# EAGLE library part VS1053 (library we-chip)
VLSI VS1053 Audio Codec - Ogg Vorbis/MP3/AAC/WMA/FLAC/MIDI
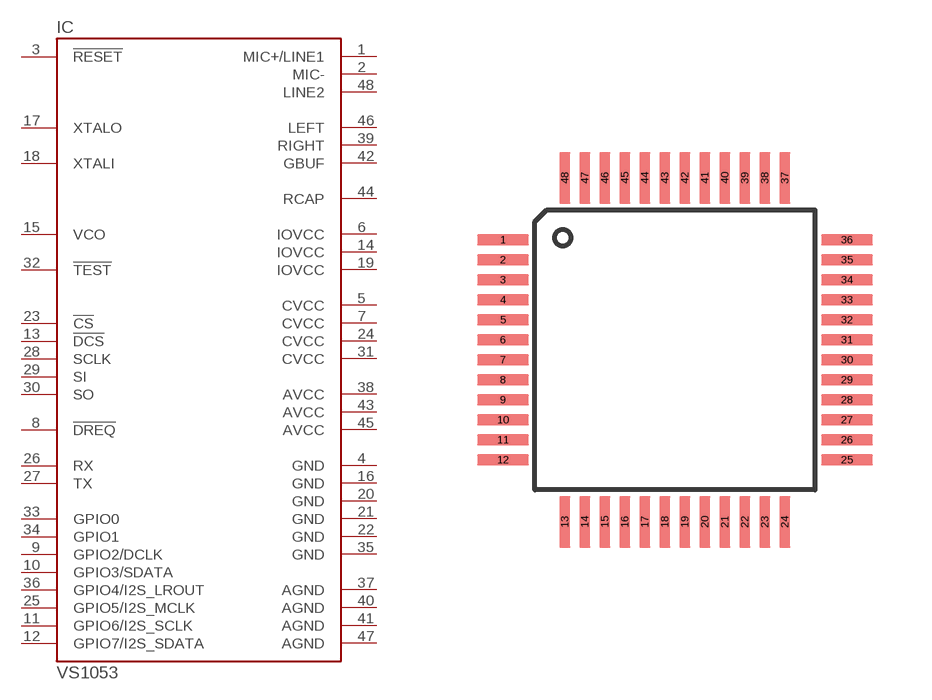
[diagram p9: symbol with the pads of TQFP48; footprint TQFP48]

Designator prefix IC

## VS1053  [TQFP48]
1  MIC+/LINE1  pas
2  MIC-  pas
3  !RESET  in
4  GND  pwr
5  CVCC  pwr
6  IOVCC  pwr
7  CVCC  pwr
8  !DREQ  in
9  GPIO2/DCLK
10  GPIO3/SDATA
11  GPIO6/I2S_SCLK
12  GPIO7/I2S_SDATA
13  !DCS  in
14  IOVCC  pwr
15  VCO  out
16  GND  pwr
17  XTALO  pas
18  XTALI  pas
19  IOVCC  pwr
20  GND  pwr
21  GND  pwr
22  GND  pwr
23  !CS  in
24  CVCC  pwr
25  GPIO5/I2S_MCLK
26  RX  in
27  TX  out
28  SCLK  in
29  SI  in
30  SO  out
31  CVCC  pwr
32  !TEST  in
33  GPIO0
34  GPIO1
35  GND  pwr
36  GPIO4/I2S_LROUT
37  AGND  pwr
38  AVCC  pwr
39  RIGHT  pas
40  AGND  pwr
41  AGND  pwr
42  GBUF  pas
43  AVCC  pwr
44  RCAP  pas
45  AVCC  pwr
46  LEFT  pas
47  AGND  pwr
48  LINE2  pas

## Footprint TQFP48 (pad centres in mm)
smd 1.3 x 0.28: 1 -4.3,2.75; 2 -4.3,2.25; 3 -4.3,1.75; 4 -4.3,1.25; 5 -4.3,0.75; 6 -4.3,0.25; 7 -4.3,-0.25; 8 -4.3,-0.75; 9 -4.3,-1.25; 10 -4.3,-1.75; 11 -4.3,-2.25; 12 -4.3,-2.75; 25 4.3,-2.75; 26 4.3,-2.25; 27 4.3,-1.75; 28 4.3,-1.25; 29 4.3,-0.75; 30 4.3,-0.25; 31 4.3,0.25; 32 4.3,0.75; 33 4.3,1.25; 34 4.3,1.75; 35 4.3,2.25; 36 4.3,2.75
smd 0.28 x 1.3: 13 -2.75,-4.3; 14 -2.25,-4.3; 15 -1.75,-4.3; 16 -1.25,-4.3; 17 -0.75,-4.3; 18 -0.25,-4.3; 19 0.25,-4.3; 20 0.75,-4.3; 21 1.25,-4.3; 22 1.75,-4.3; 23 2.25,-4.3; 24 2.75,-4.3; 37 2.75,4.3; 38 2.25,4.3; 39 1.75,4.3; 40 1.25,4.3; 41 0.75,4.3; 42 0.25,4.3; 43 -0.25,4.3; 44 -0.75,4.3; 45 -1.25,4.3; 46 -1.75,4.3; 47 -2.25,4.3; 48 -2.75,4.3